# EAGLE library part JTAG-HEADER (library CAN-D)
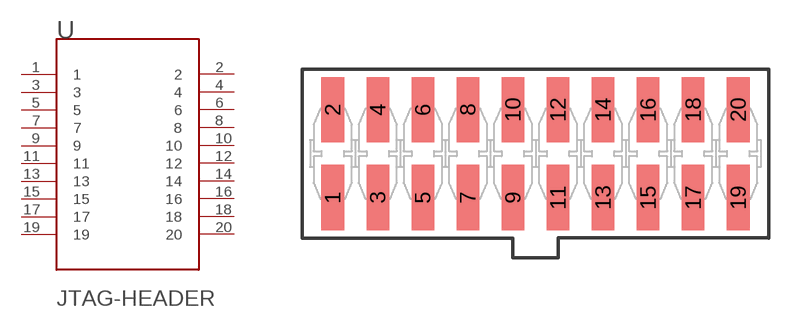
[diagram p10: symbol with the pads of TSM-110-02-S-DV-P-TR; footprint TSM-110-02-S-DV-P-TR]

Designator prefix -

## JTAG-HEADERJ (DESCRIPTION: Conn Unshrouded Header HDR 20 POS 2.54mm Solder ST SMD T/R; DIGI-KEY_PART_NUMBER: SAM14887CT-ND; DIGI-KEY_PURCHASE_URL: https://www.digikey.ca/product-detail/en/samtec-inc/TSM-110-01-T-DV-TR/SAM14887CT-ND/9595179?utm_source=snapeda&utm_medium=aggregator&utm_campaign=symbol; MF: Samtec Inc.; MP: TSM-110-01-T-DV-TR; PACKAGE: None)  [TSM-110-02-S-DV-P-TR]
1  1  pas
2  2  pas
3  3  pas
4  4  pas
5  5  pas
6  6  pas
7  7  pas
8  8  pas
9  9  pas
10  10  pas
11  11  pas
12  12  pas
13  13  pas
14  14  pas
15  15  pas
16  16  pas
17  17  pas
18  18  pas
19  19  pas
20  20  pas

## Footprint TSM-110-02-S-DV-P-TR (pad centres in mm)
translated Allegro footprint
smd 1.27 x 3.68: 1 -11.43,-2.476; 2 -11.43,2.476; 3 -8.89,-2.476; 4 -8.89,2.476; 5 -6.35,-2.476; 6 -6.35,2.476; 7 -3.81,-2.476; 8 -3.81,2.476; 9 -1.27,-2.476; 10 -1.27,2.476; 11 1.27,-2.476; 12 1.27,2.476; 13 3.81,-2.476; 14 3.81,2.476; 15 6.35,-2.476; 16 6.35,2.476; 17 8.89,-2.476; 18 8.89,2.476; 19 11.43,-2.476; 20 11.43,2.476